# Altium footprint library DPX2012LL75R2455A.PcbLib: 1 footprints
Each footprint in its own frame and in the unit in brackets; x right, y up, seen from the top. Pads: shape width x height; smd on the part's side, far side on the other; paste and mask are expansions set on the pad; w line width, h text height; cw(c..) or ccw(c..) is an arc to the next point about the centre after c.
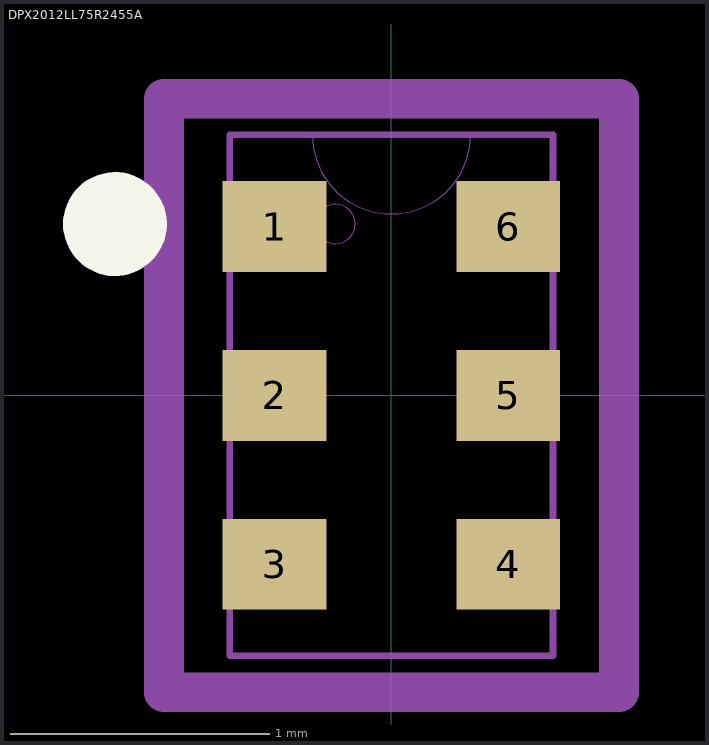
[diagram p0: the footprint, top view; thin cyan lines are the x and y axes]

## DPX2012LL75R2455A [mm] "DIPLEXER SMD 2.4G/5G 0805"
pads (6):
  rect 0.4x0.35 smd paste+0 mask+0: 1(-0.45,0.65) 2(-0.45,0) 3(-0.45,-0.65) 4(0.45,-0.65) 5(0.45,0) 6(0.45,0.65)
Top Overlay:
  circle w0.2: c-1.065,0.66 r0.1
Mechanical 13:
  circle w0: c-0.216,0.66 r0.076
  lines w0: -0.305,1.003 ccw(c0,1.003) 0.305,1.003
  lines w0.025: -0.622,-1.003 -0.622,1.003 0.622,1.003 0.622,-1.003 -0.622,-1.003
Mechanical 15:
  lines w0.152: -0.876,-1.143 0.876,-1.143 0.876,1.143 -0.876,1.143 -0.876,-1.143
3D body "GE0805C-10_MNC.step": height 0.61, standoff 0, extent -0.622,-1.003 0.622,1.003